# Altium schematic symbol library ul_UX60SCMB5ST80.SchLib: 2 symbols
Pins are listed as number, name and electrical type; pins without a type are passive.

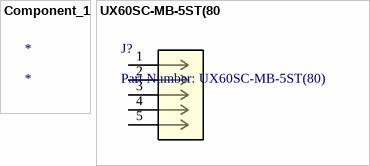
[diagram p0: symbols Component_1 to UX60SC-MB-5ST(80]

## Component_1
designator *

## UX60SC-MB-5ST(80
designator J?, comment Part Number: UX60SC-MB-5ST(80)
No Description Available; Vendor: Hirose; Built_By: EMA_Matt; Manufacturer_Part_Number: UX60SC-MB-5ST(80); Copyright: Copyright (C) 2018 Accelerated Designs. All rights reserved; RefDes: RefDes; Type: DEV; Value: Value
footprint CONN_MB-5ST(80)
pins: 1, 2, 3, 4, 5